# EAGLE library part AP62600SJ-7 (library axios_components)
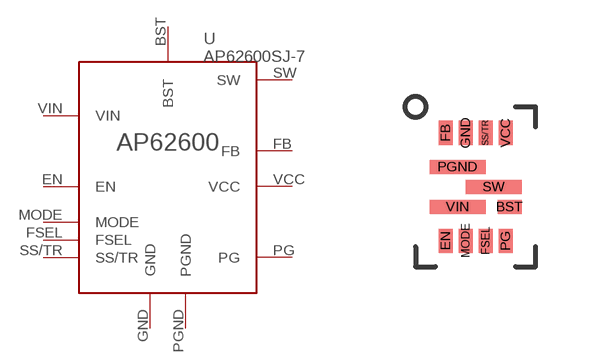
[diagram p7: symbol with the pads of V-QFN2030-12; footprint V-QFN2030-12]

Designator prefix U

## AP62600SJ-7  [V-QFN2030-12]
BST  BST
EN  EN
FB  FB
FSEL  FSEL
GND  GND
MODE  MODE
PG  PG
PGND  PGND
SS/TR  SS/TR
SW  SW
VCC  VCC
VIN  VIN

## Footprint V-QFN2030-12 (pad centres in mm)
smd 0.6 x 0.35: BST 0.85,-0.5
smd 0.35 x 0.6: EN -0.75,-1.35; FB -0.75,1.35; FSEL 0.25,-1.35; GND -0.25,1.35; MODE -0.25,-1.35; PG 0.75,-1.35; SS/TR 0.25,1.35; VCC 0.75,1.35
smd 1.4 x 0.35: PGND -0.45,0.5; SW 0.45,0; VIN -0.45,-0.5